# Altium footprint library RLB inductor.PcbLib: 1 footprints
Each footprint in its own frame and in the unit in brackets; x right, y up, seen from the top. Pads: shape width x height; smd on the part's side, far side on the other; paste and mask are expansions set on the pad; w line width, h text height; cw(c..) or ccw(c..) is an arc to the next point about the centre after c.
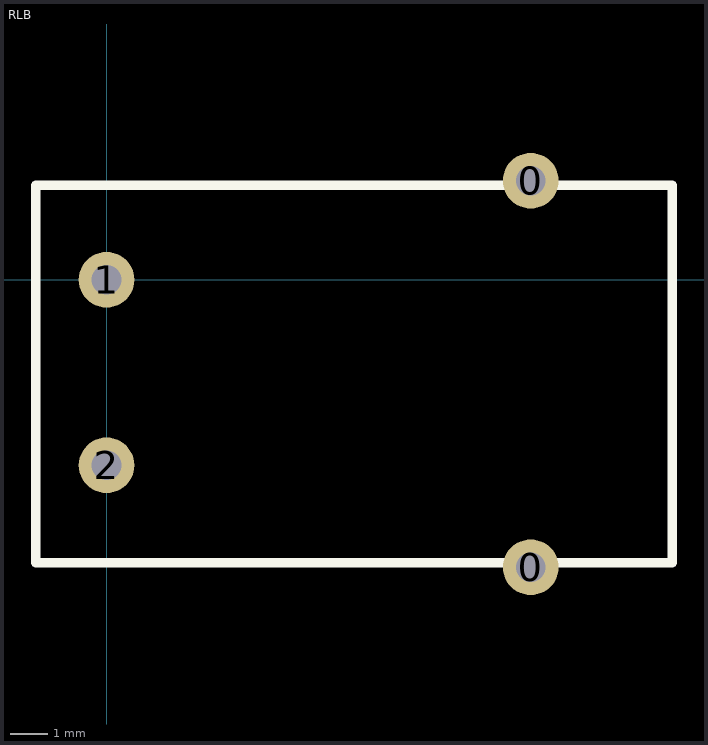
[diagram p0: the footprint, top view; thin cyan lines are the x and y axes]

## RLB [mm]
height 5.08
pads (4):
  round 1.5 hole 0.8: 0(11.43,-7.747) 0(11.43,2.667) 1(0,0) 2(0,-5)
Top Overlay:
  lines w0.254: -1.905,-7.62 15.24,-7.62 15.24,2.54 -1.905,2.54 -1.905,-7.62
3D body "L391.STEP": height 9.5, standoff -1.5, extent -0.313,-6.985 14.537,2.015